# Altium schematic symbol library 2019-03-30_19-29-43.SchLib: 2 symbols
Pins are listed as number, name and electrical type; pins without a type are passive.

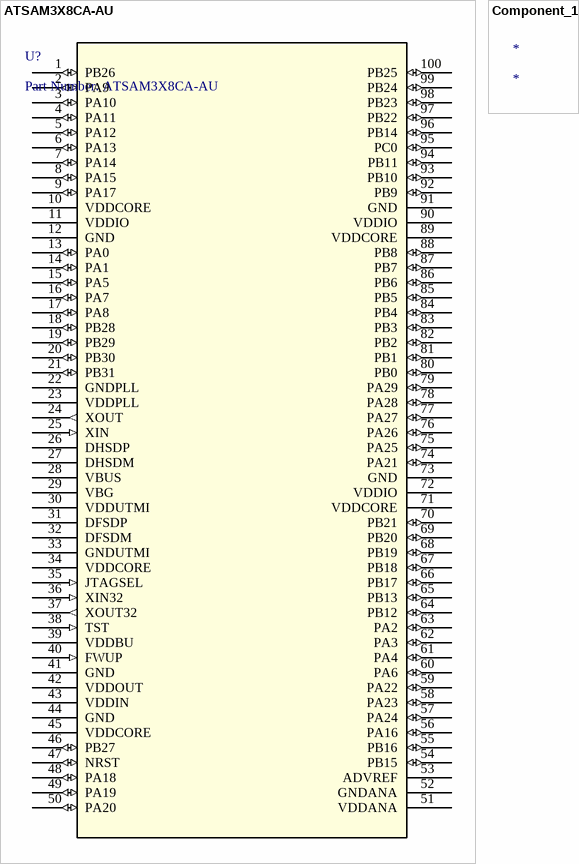
[diagram p0: symbols ATSAM3X8CA-AU to Component_1]

## ATSAM3X8CA-AU
designator U?, comment Part Number: ATSAM3X8CA-AU
No Description Available; Vendor: Atmel; Built_By: EMA_UL_Team; Manufacturer_Part_Number: ATSAM3X8CA-AU; Copyright: Copyright (C) 2018 Accelerated Designs. All rights reserved; RefDes: RefDes; Type: DEV; Value: Value
footprint LQFP100
pins: 1 PB26 (io), 2 PA9 (io), 3 PA10 (io), 4 PA11 (io), 5 PA12 (io), 6 PA13 (io), 7 PA14 (io), 8 PA15 (io), 9 PA17 (io), 10 VDDCORE (power), 11 VDDIO (power), 12 GND (power), 13 PA0 (io), 14 PA1 (io), 15 PA5 (io), 16 PA7 (io), 17 PA8 (io), 18 PB28 (io), 19 PB29 (io), 20 PB30 (io), 21 PB31 (io), 22 GNDPLL (power), 23 VDDPLL (power), 24 XOUT (out), 25 XIN (in), 26 DHSDP, 27 DHSDM, 28 VBUS, 29 VBG, 30 VDDUTMI (power), 31 DFSDP, 32 DFSDM, 33 GNDUTMI (power), 34 VDDCORE (power), 35 JTAGSEL (in), 36 XIN32 (in), 37 XOUT32 (out), 38 TST (in), 39 VDDBU (power), 40 FWUP (in), 41 GND (power), 42 VDDOUT (power), 43 VDDIN (power), 44 GND (power), 45 VDDCORE (power), 46 PB27 (io), 47 NRST (io), 48 PA18 (io), 49 PA19 (io), 50 PA20 (io), 51 VDDANA (power), 52 GNDANA (power), 53 ADVREF, 54 PB15 (io), 55 PB16 (io), 56 PA16 (io), 57 PA24 (io), 58 PA23 (io), 59 PA22 (io), 60 PA6 (io), 61 PA4 (io), 62 PA3 (io), 63 PA2 (io), 64 PB12 (io), 65 PB13 (io), 66 PB17 (io), 67 PB18 (io), 68 PB19 (io), 69 PB20 (io), 70 PB21 (io), 71 VDDCORE (power), 72 VDDIO (power), 73 GND (power), 74 PA21 (io), 75 PA25 (io), 76 PA26 (io), 77 PA27 (io), 78 PA28 (io), 79 PA29 (io), 80 PB0 (io), 81 PB1 (io), 82 PB2 (io), 83 PB3 (io), 84 PB4 (io), 85 PB5 (io), 86 PB6 (io), 87 PB7 (io), 88 PB8 (io), 89 VDDCORE (power), 90 VDDIO (power), 91 GND (power), 92 PB9 (io), 93 PB10 (io), 94 PB11 (io), 95 PC0 (io), 96 PB14 (io), 97 PB22 (io), 98 PB23 (io), 99 PB24 (io), 100 PB25 (io)

## Component_1
designator *